# EAGLE library part 66202021122 (library Wuerth_Elektronik_eiCan_08_Micro_Power_Connectors)
WR-MPC3 3.00mm Male Dual Row Vertical Header, 20 Pins
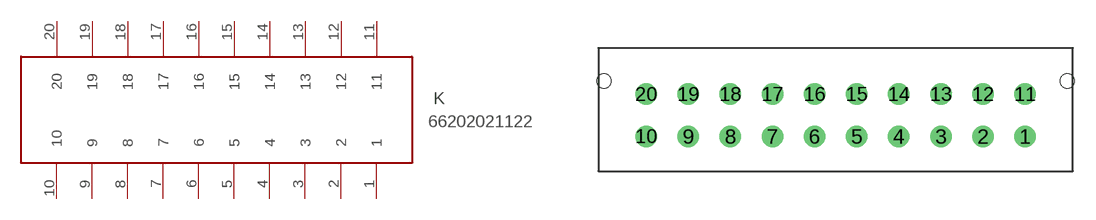
[diagram p7: symbol with the pads of 66202021122; footprint 66202021122]

Designator prefix K

## 66202021122  [66202021122]
1  1
2  2
3  3
4  4
5  5
6  6
7  7
8  8
9  9
10  10
11  11
12  12
13  13
14  14
15  15
16  16
17  17
18  18
19  19
20  20

## Footprint 66202021122 (pad centres in mm)
WR-MPC3-3.00mm Male Dual Row Vertical Header,20 pins
drill 1.02 round: 1 0,-1.5; 2 -3,-1.5; 3 -6,-1.5; 4 -9,-1.5; 5 -12,-1.5; 6 -15,-1.5; 7 -18,-1.5; 8 -21,-1.5; 9 -24,-1.5; 10 -27,-1.5; 11 0,1.5; 12 -3,1.5; 13 -6,1.5; 14 -9,1.5; 15 -12,1.5; 16 -15,1.5; 17 -18,1.5; 18 -21,1.5; 19 -24,1.5; 20 -27,1.5
hole 1.02 at -30,2.44
hole 1.02 at 3,2.44